# EAGLE library part CD4052 (library _mtvl_ic)
Dual 4-channel analog multiplexer/demultiplexer
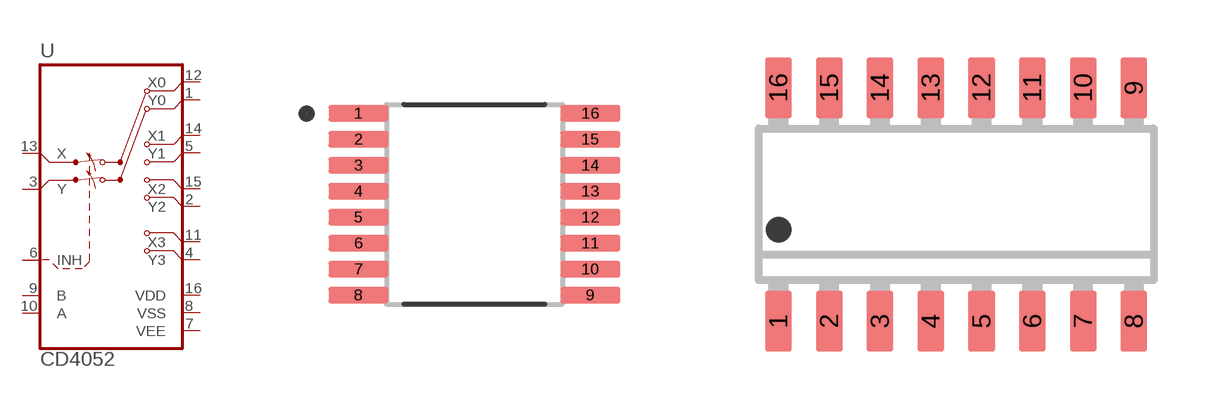
[diagram p51: symbol with the pads of TSSOP-16; footprints TSSOP-16, SO16_]

Designator prefix U

## CD4052BPWR (AVAILABILITY: In Stock; DESCRIPTION: 20-V, 4:1, 2-channel general-purpose multiplexer; MF: Texas Instruments; MP: CD4052BPWR; PACKAGE: TSSOP-16 Texas Instruments)  [TSSOP-16]
1  Y0
2  Y2
3  Y
4  Y3
5  Y1
6  INH  in
7  VEE  pwr
8  VSS  pwr
9  B  in
10  A  in
11  X3
12  X0
13  X
14  X1
15  X2
16  VDD  pwr

## CD4052BM  [SO16_]
Pads as for TSSOP-16

## CD4052BTT-HEF  [TSSOP-16_NEXPERIA]
Pads as for TSSOP-16

## Footprint TSSOP-16 (pad centres in mm)
smd 1.5 x 0.41: 1 -2.9,2.275; 2 -2.9,1.625; 3 -2.9,0.975; 4 -2.9,0.325; 5 -2.9,-0.325; 6 -2.9,-0.975; 7 -2.9,-1.625; 8 -2.9,-2.275; 9 2.9,-2.275; 10 2.9,-1.625; 11 2.9,-0.975; 12 2.9,-0.325; 13 2.9,0.325; 14 2.9,0.975; 15 2.9,1.625; 16 2.9,2.275

## Footprint SO16_ (pad centres in mm)
SMALL OUTLINE INTEGRATED CIRCUIT body 3.9 mm/JEDEC MS-012AC
smd 0.66 x 1.524: 1 -4.445,-2.921; 2 -3.175,-2.921; 3 -1.905,-2.921; 4 -0.635,-2.921; 5 0.635,-2.921; 6 1.905,-2.921; 7 3.175,-2.921; 8 4.445,-2.921; 9 4.445,2.921; 10 3.175,2.921; 11 1.905,2.921; 12 0.635,2.921; 13 -0.635,2.921; 14 -1.905,2.921; 15 -3.175,2.921; 16 -4.445,2.921

## Footprint TSSOP-16_NEXPERIA (pad centres in mm)
SOT403-1 plastic, thin shrink small outline package; 16 leads; 5 mm x 4.4 mm x 1.1 mm body https://assets.nexperia.com/documents/package-information/SOT403-1.pdf
smd 1.35 x 0.5: 1 -2.9,2.375; 8 -2.9,-2.375; 9 2.9,-2.375; 16 2.9,2.375
smd 1.35 x 0.4: 2 -2.9,1.625; 3 -2.9,0.975; 4 -2.9,0.325; 5 -2.9,-0.325; 6 -2.9,-0.975; 7 -2.9,-1.625; 10 2.9,-1.625; 11 2.9,-0.975; 12 2.9,-0.325; 13 2.9,0.325; 14 2.9,0.975; 15 2.9,1.625